# EAGLE library part GRAYHILL-71-1POL-10POS-2DECK (library ryans-common-components)
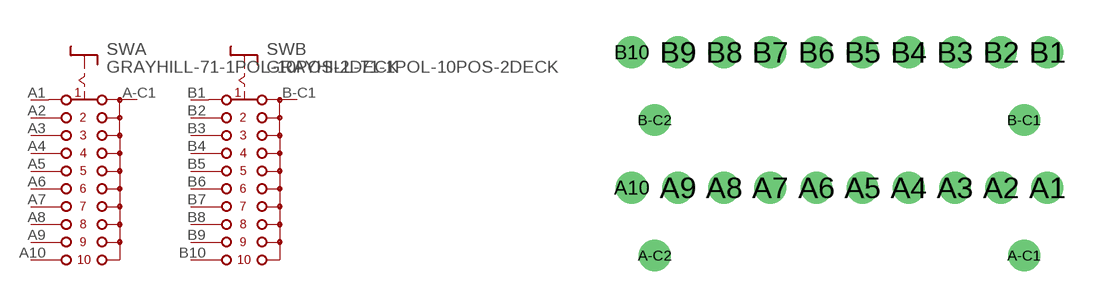
[diagram p10: symbol with the pads of GRAYHILL-71-36º-2DECK; footprint GRAYHILL-71-36º-2DECK]

Designator prefix SW; gates A=SWITCH-1POL-10POS B=SWITCH-1POL-10POS

## GRAYHILL-71-1POL-10POS-2DECK  [GRAYHILL-71-36º-2DECK]
A1  A:1  pas
A2  A:2  pas
A3  A:3  pas
A4  A:4  pas
A5  A:5  pas
A6  A:6  pas
A7  A:7  pas
A8  A:8  pas
A9  A:9  pas
A10  A:10  pas
A-C1  A:S  pas
B1  B:1  pas
B2  B:2  pas
B3  B:3  pas
B4  B:4  pas
B5  B:5  pas
B6  B:6  pas
B7  B:7  pas
B8  B:8  pas
B9  B:9  pas
B10  B:10  pas
B-C1  B:S  pas

## Footprint GRAYHILL-71-36º-2DECK (pad centres in mm)
drill 0.8: A1 8.572,0; A2 6.668,0; A3 4.763,0; A4 2.857,0; A5 0.953,0; A6 -0.953,0; A7 -2.857,0; A8 -4.763,0; A9 -6.668,0; A10 -8.572,0; A-C1 7.62,-2.794; A-C2 -7.62,-2.794; B1 8.572,5.588; B2 6.668,5.588; B3 4.763,5.588; B4 2.857,5.588; B5 0.953,5.588; B6 -0.953,5.588; B7 -2.857,5.588; B8 -4.763,5.588; B9 -6.668,5.588; B10 -8.572,5.588; B-C1 7.62,2.794; B-C2 -7.62,2.794